# Altium schematic symbol library Atmel.SchLib: 3 symbols
Pins are listed as number, name and electrical type; pins without a type are passive.

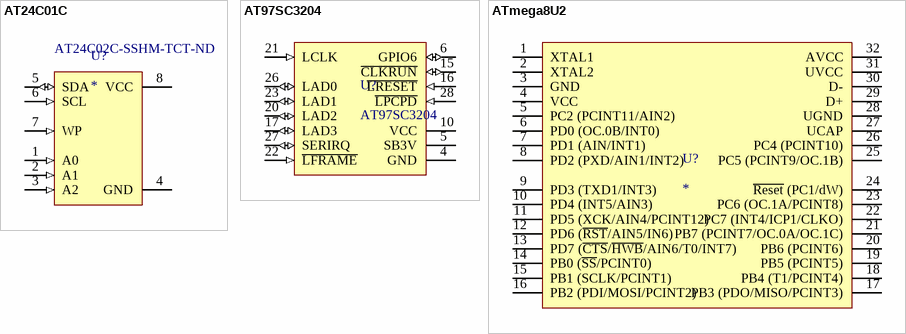
[diagram p0: symbols AT24C01C to ATmega8U2]

## AT24C01C
designator U?  Supplier Part Number 1: AT24C02C-SSHM-TCT-ND
I2C-Compatible (2-Wire) Serial EEPROM 1-Kb (128x8), 2-Kb (256x8); Supplier 1: Digi-Key
footprint SOT95P280X110-5L (SOT23, 5-Leads, Body 3,0x2,8mm (max), Pitch 0,95mm, IPC High Density); pin to pad 1>2 3>2 4>2 5>3 6>1 7>5 8>4
pins: 1 A0 (in), 2 A1 (in), 3 A2 (in), 4 GND (power), 5 SDA (io), 6 SCL (in), 7 WP (in), 8 VCC (power)

## AT97SC3204
designator U?
Trusted Platform Module
pins: 4 GND (power), 5 SB3V (power), 6 GPIO6 (io), 10 VCC (power), 15 ~{CLKRUN} (io), 16 ~{LRESET} (in), 17 LAD3 (io), 20 LAD2 (io), 21 LCLK (in), 22 ~{LFRAME} (in), 23 LAD1 (io), 26 LAD0 (io), 27 SERIRQ (io), 28 ~{LPCPD} (in)

## ATmega8U2
designator U?
footprint TQFP80P900X900X120-32N (TQFP, 32-Leads, Body 9,0x9,0mm (max), Pitch 0,80mm, IPC Medium Density)
footprint QFN50P500X500X100-32N (QFN, 32-Leads, Body 5,0x5,0mm (max), Pitch 0,50mm, IPC Medium Density)
pins: 1 XTAL1, 2 XTAL2, 3 GND, 4 VCC, 5 PC2 (PCINT11/AIN2), 6 PD0 (OC.0B/INT0), 7 PD1 (AIN/INT1), 8 PD2 (PXD/AIN1/INT2), 9 PD3 (TXD1/INT3), 10 PD4 (INT5/AIN3), 11 PD5 (XCK/AIN4/PCINT12), 12 PD6 (~{RST}/AIN5/IN6), 13 PD7 (~{CTS}/~{HWB}/AIN6/T0/INT7), 14 PB0 (~{SS}/PCINT0), 15 PB1 (SCLK/PCINT1), 16 PB2 (PDI/MOSI/PCINT2), 17 PB3 (PDO/MISO/PCINT3), 18 PB4 (T1/PCINT4), 19 PB5 (PCINT5), 20 PB6 (PCINT6), 21 PB7 (PCINT7/OC.0A/OC.1C), 22 PC7 (INT4/ICP1/CLKO), 23 PC6 (OC.1A/PCINT8), 24 ~{Reset} (PC1/dW), 25 PC5 (PCINT9/OC.1B), 26 PC4 (PCINT10), 27 UCAP, 28 UGND, 29 D+, 30 D-, 31 UVCC, 32 AVCC